# EAGLE library part ADSP-21483/6/7/9 (library Strutz Electronic Industries)
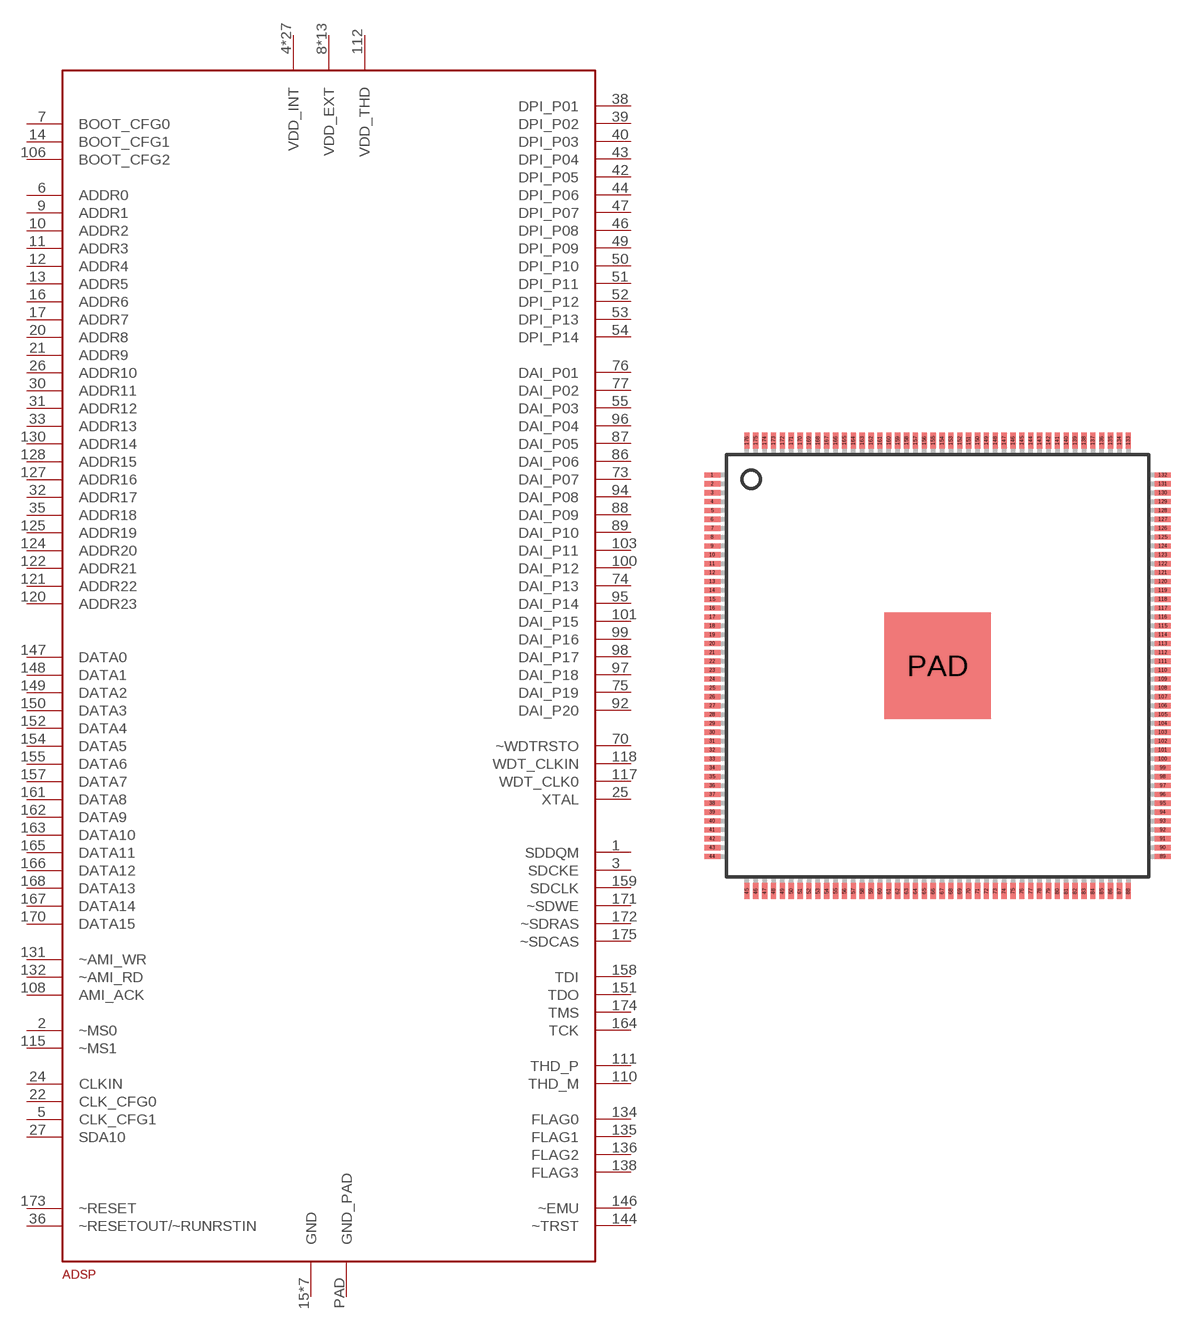
[diagram p15: symbol with the pads of LQFP-176; footprint LQFP-176]

Designator prefix -

## ADSP-21483/6/7/9  [LQFP-176]
1  SDDQM
2  ~MS0
3  SDCKE
4  VDD_INT
5  CLK_CFG1
6  ADDR0
7  BOOT_CFG0
8  VDD_EXT
9  ADDR1
10  ADDR2
11  ADDR3
12  ADDR4
13  ADDR5
14  BOOT_CFG1
15  GND
16  ADDR6
17  ADDR7
20  ADDR8
21  ADDR9
22  CLK_CFG0
23  VDD_INT
24  CLKIN
25  XTAL
26  ADDR10
27  SDA10
28  VDD_EXT
29  VDD_INT
30  ADDR11
31  ADDR12
32  ADDR17
33  ADDR13
34  VDD_INT
35  ADDR18
36  ~RESETOUT/~RUNRSTIN
37  VDD_INT
38  DPI_P01
39  DPI_P02
40  DPI_P03
41  VDD_INT
42  DPI_P05
43  DPI_P04
44  DPI_P06
45  VDD_EXT
46  DPI_P08
47  DPI_P07
48  VDD_INT
49  DPI_P09
50  DPI_P10
51  DPI_P11
52  DPI_P12
53  DPI_P13
54  DPI_P14
55  DAI_P03
57  VDD_EXT
62  VDD_INT
65  VDD_INT
68  VDD_INT
70  ~WDTRSTO
72  VDD_EXT
73  DAI_P07
74  DAI_P13
75  DAI_P19
76  DAI_P01
77  DAI_P02
78  VDD_INT
84  VDD_EXT
85  VDD_INT
86  DAI_P06
87  DAI_P05
88  DAI_P09
89  DAI_P10
90  VDD_INT
91  VDD_EXT
92  DAI_P20
93  VDD_INT
94  DAI_P08
95  DAI_P14
96  DAI_P04
97  DAI_P18
98  DAI_P17
99  DAI_P16
100  DAI_P12
101  DAI_P15
102  VDD_INT
103  DAI_P11
104  VDD_EXT
105  VDD_INT
106  BOOT_CFG2
107  VDD_INT
108  AMI_ACK
109  GND
110  THD_M
111  THD_P
112  VDD_THD
113  VDD_INT
114  VDD_INT
115  ~MS1
116  VDD_INT
117  WDT_CLK0
118  WDT_CLKIN
119  VDD_EXT
120  ADDR23
121  ADDR22
122  ADDR21
123  VDD_INT
124  ADDR20
125  ADDR19
126  VDD_EXT
127  ADDR16
128  ADDR15
129  VDD_INT
130  ADDR14
131  ~AMI_WR
132  ~AMI_RD
133  VDD_INT
134  FLAG0
135  FLAG1
136  FLAG2
137  GND
138  FLAG3
139  GND
140  GND
141  VDD_EXT
142  GND
143  VDD_INT
144  ~TRST
145  GND
146  ~EMU
147  DATA0
148  DATA1
149  DATA2
150  DATA3
151  TDO
152  DATA4
153  VDD_EXT
154  DATA5
155  DATA6
156  VDD_INT
157  DATA7
158  TDI
159  SDCLK
160  VDD_EXT
161  DATA8
162  DATA9
163  DATA10
164  TCK
165  DATA11
166  DATA12
167  DATA14
168  DATA13
169  VDD_INT
170  DATA15
171  ~SDWE
172  ~SDRAS
173  ~RESET
174  TMS
175  ~SDCAS
176  VDD_INT
PAD  GND_PAD

## Footprint LQFP-176 (pad centres in mm)
smd 0.9 x 0.3: 1 -12.7,10.75; 2 -12.7,10.25; 3 -12.7,9.75; 4 -12.7,9.25; 5 -12.7,8.75; 6 -12.7,8.25; 7 -12.7,7.75; 8 -12.7,7.25; 9 -12.7,6.75; 10 -12.7,6.25; 11 -12.7,5.75; 12 -12.7,5.25; 13 -12.7,4.75; 14 -12.7,4.25; 15 -12.7,3.75; 16 -12.7,3.25; 17 -12.7,2.75; 18 -12.7,2.25; 19 -12.7,1.75; 20 -12.7,1.25; 21 -12.7,0.75; 22 -12.7,0.25; 23 -12.7,-0.25; 24 -12.7,-0.75; 25 -12.7,-1.25; 26 -12.7,-1.75; 27 -12.7,-2.25; 28 -12.7,-2.75; 29 -12.7,-3.25; 30 -12.7,-3.75; 31 -12.7,-4.25; 32 -12.7,-4.75; 33 -12.7,-5.25; 34 -12.7,-5.75; 35 -12.7,-6.25; 36 -12.7,-6.75; 37 -12.7,-7.25; 38 -12.7,-7.75; 39 -12.7,-8.25; 40 -12.7,-8.75; 41 -12.7,-9.25; 42 -12.7,-9.75; 43 -12.7,-10.25; 44 -12.7,-10.75; 89 12.7,-10.75; 90 12.7,-10.25; 91 12.7,-9.75; 92 12.7,-9.25; 93 12.7,-8.75; 94 12.7,-8.25; 95 12.7,-7.75; 96 12.7,-7.25; 97 12.7,-6.75; 98 12.7,-6.25; 99 12.7,-5.75; 100 12.7,-5.25; 101 12.7,-4.75; 102 12.7,-4.25; 103 12.7,-3.75; 104 12.7,-3.25; 105 12.7,-2.75; 106 12.7,-2.25; 107 12.7,-1.75; 108 12.7,-1.25; 109 12.7,-0.75; 110 12.7,-0.25; 111 12.7,0.25; 112 12.7,0.75; 113 12.7,1.25; 114 12.7,1.75; 115 12.7,2.25; 116 12.7,2.75; 117 12.7,3.25; 118 12.7,3.75; 119 12.7,4.25; 120 12.7,4.75; 121 12.7,5.25; 122 12.7,5.75; 123 12.7,6.25; 124 12.7,6.75; 125 12.7,7.25; 126 12.7,7.75; 127 12.7,8.25; 128 12.7,8.75; 129 12.7,9.25; 130 12.7,9.75; 131 12.7,10.25; 132 12.7,10.75
smd 0.3 x 0.9: 45 -10.75,-12.7; 46 -10.25,-12.7; 47 -9.75,-12.7; 48 -9.25,-12.7; 49 -8.75,-12.7; 50 -8.25,-12.7; 51 -7.75,-12.7; 52 -7.25,-12.7; 53 -6.75,-12.7; 54 -6.25,-12.7; 55 -5.75,-12.7; 56 -5.25,-12.7; 57 -4.75,-12.7; 58 -4.25,-12.7; 59 -3.75,-12.7; 60 -3.25,-12.7; 61 -2.75,-12.7; 62 -2.25,-12.7; 63 -1.75,-12.7; 64 -1.25,-12.7; 65 -0.75,-12.7; 66 -0.25,-12.7; 67 0.25,-12.7; 68 0.75,-12.7; 69 1.25,-12.7; 70 1.75,-12.7; 71 2.25,-12.7; 72 2.75,-12.7; 73 3.25,-12.7; 74 3.75,-12.7; 75 4.25,-12.7; 76 4.75,-12.7; 77 5.25,-12.7; 78 5.75,-12.7; 79 6.25,-12.7; 80 6.75,-12.7; 81 7.25,-12.7; 82 7.75,-12.7; 83 8.25,-12.7; 84 8.75,-12.7; 85 9.25,-12.7; 86 9.75,-12.7; 87 10.25,-12.7; 88 10.75,-12.7; 133 10.75,12.7; 134 10.25,12.7; 135 9.75,12.7; 136 9.25,12.7; 137 8.75,12.7; 138 8.25,12.7; 139 7.75,12.7; 140 7.25,12.7; 141 6.75,12.7; 142 6.25,12.7; 143 5.75,12.7; 144 5.25,12.7; 145 4.75,12.7; 146 4.25,12.7; 147 3.75,12.7; 148 3.25,12.7; 149 2.75,12.7; 150 2.25,12.7; 151 1.75,12.7; 152 1.25,12.7; 153 0.75,12.7; 154 0.25,12.7; 155 -0.25,12.7; 156 -0.75,12.7; 157 -1.25,12.7; 158 -1.75,12.7; 159 -2.25,12.7; 160 -2.75,12.7; 161 -3.25,12.7; 162 -3.75,12.7; 163 -4.25,12.7; 164 -4.75,12.7; 165 -5.25,12.7; 166 -5.75,12.7; 167 -6.25,12.7; 168 -6.75,12.7; 169 -7.25,12.7; 170 -7.75,12.7; 171 -8.25,12.7; 172 -8.75,12.7; 173 -9.25,12.7; 174 -9.75,12.7; 175 -10.25,12.7; 176 -10.75,12.7
smd 6 x 6: PAD 0,0